# EAGLE library part IRF7103 (library transistor-fet+irf7201)
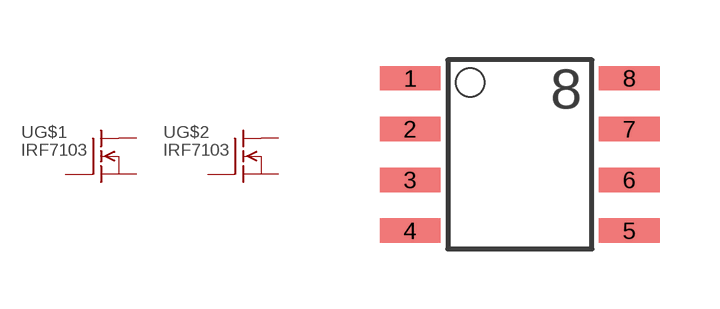
[diagram p1: symbol with the pads of SO-8; footprint SO-8]

Designator prefix -; gates G$1=IGFET-EN-G2DS G$2=IGFET-EN-G2DS

## IRF7103  [SO-8]
1  G$1:S  pas
2  G$1:G  pas
3  G$2:S  pas
4  G$2:G  pas
5  G$2:D1  pas
6  G$2:D  pas
7  G$1:D  pas
8  G$1:D1  pas

## Footprint SO-8 (pad centres in mm)
small outline
smd 1.524 x 0.61: 1 -2.743,1.27; 2 -2.743,0; 3 -2.743,-1.27; 4 -2.743,-2.54; 5 2.743,-2.54; 6 2.743,-1.27; 7 2.743,0; 8 2.743,1.27